# Altium integrated library ra-01s.IntLib: 1 symbol
Pins are listed as number, name and electrical type; pins without a type are passive.

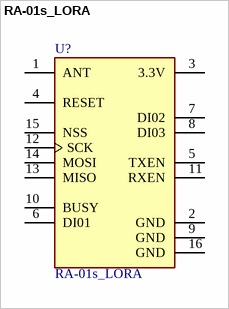
[diagram p0: symbol RA-01s_LORA]

## RA-01s_LORA
designator U?
Ra-02 LoRa RF M5Stack Platform Evaluation Expansion Board; MP: RA-02_LORA; Package: None; Availability: Unavailable; Value: *; Price: None
footprint MODULE_RA-01s_LORA
pins: 1 ANT (power), 2 GND (power), 3 3.3V (power), 4 RESET, 5 TXEN, 6 DI01, 7 DI02, 8 DI03, 9 GND (power), 10 BUSY, 11 RXEN, 12 SCK, 13 MISO, 14 MOSI, 15 NSS, 16 GND (power)